# Altium footprint library SparkFun-Clocks.PCBLIB: 23 footprints (part 1 of 2)
Each footprint in its own frame and in the unit in brackets; x right, y up, seen from the top. Pads: shape width x height; smd on the part's side, far side on the other; paste and mask are expansions set on the pad; w line width, h text height; cw(c..) or ccw(c..) is an arc to the next point about the centre after c.
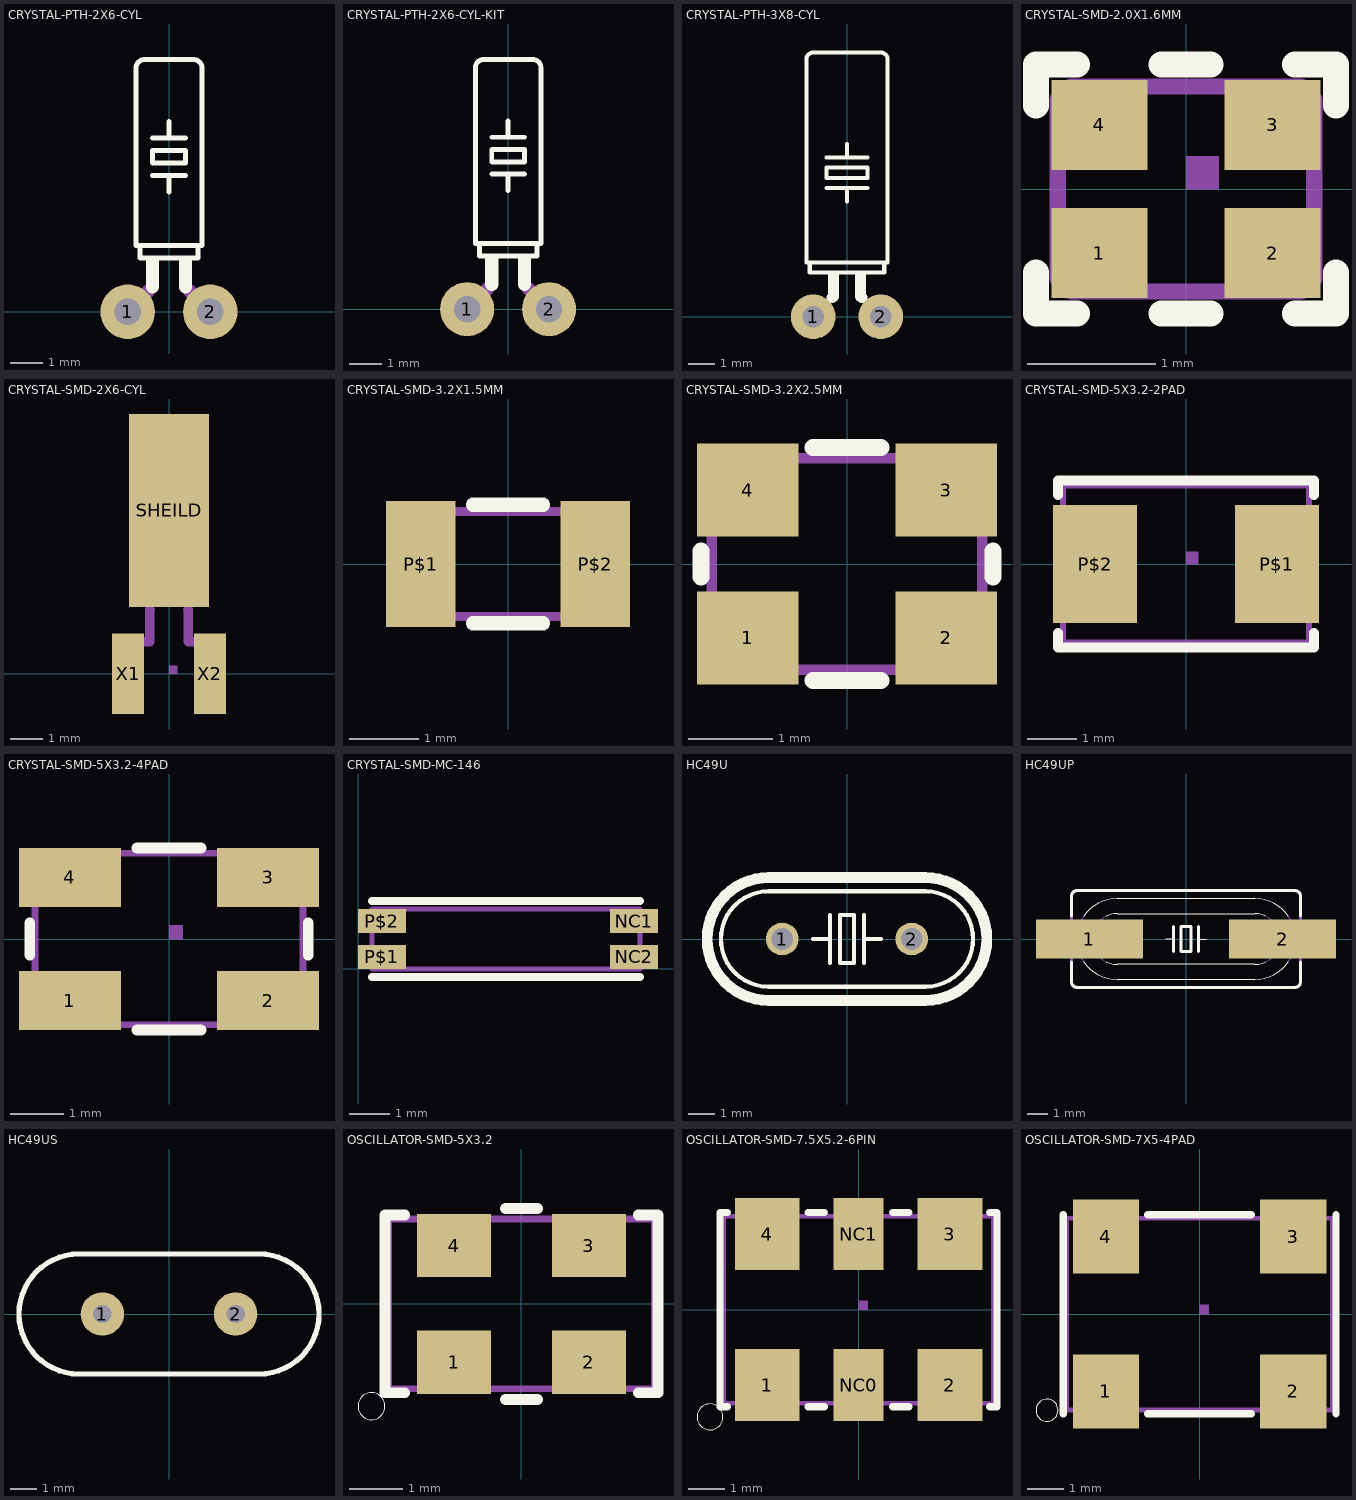
[diagram p0: the footprints below, top view; thin cyan lines are the x and y axes]

## CRYSTAL-PTH-2X6-CYL [mil]
pads (2):
  round 66 hole 32: 1(-50,0) 2(50,0)
Top Overlay:
  rectangle: 12,40 28,63
  rectangle: -28,40 -12,63
  lines w6: -20,165 0,165 ; -20,210 0,210 ; 0,145 0,165 ; 0,230 0,210 ; 20,165 0,165 ; 20,210 0,210 ; -35,80 -35,65 35,65 35,80 ; -35,80 -40,80 -40,295 cw(c-30,295) -30,305 30,305 cw(c30,295) 40,295 40,80 35,80 ; -35,80 35,80 ; -20,180 -20,195 20,195 20,180 -20,180
  lines w16: -20,30 -20,50 ; 20,30 20,45
Mechanical 16:
  lines w16: -50,0 -25,25 ; 25,25 50,0
Via Holes:
  rectangle: -70,30 70,330

## CRYSTAL-PTH-2X6-CYL-KIT [mil]
pads (2):
  round 66 hole 32: 1(-50,0) 2(50,0)
Top Overlay:
  rectangle: 12,40 28,63
  rectangle: -28,40 -12,63
  lines w6: -20,165 0,165 ; -20,210 0,210 ; 0,145 0,165 ; 0,230 0,210 ; 20,165 0,165 ; 20,210 0,210 ; -35,80 -35,65 35,65 35,80 ; -35,80 -40,80 -40,295 cw(c-30,295) -30,305 30,305 cw(c30,295) 40,295 40,80 35,80 ; -35,80 35,80 ; -20,180 -20,195 20,195 20,180 -20,180
  lines w16: -20,30 -20,50 ; 20,30 20,45
Top Solder:
  circle w0: c-50,0 r20
  circle w0: c50,0 r20
Bottom Solder:
  circle w0: c-50,0 r36.4
  circle w0: c50,0 r36.06
Mechanical 16:
  lines w16: -50,0 -25,25 ; 25,25 50,0
Via Holes:
  rectangle: -70,30 70,330

## CRYSTAL-PTH-3X8-CYL [mil]
pads (2):
  round 66 hole 32: 1(-50,0) 2(50,0)
Top Overlay:
  rectangle: 12,40 28,63
  rectangle: -28,40 -12,63
  lines w6: -30,190 0,190 ; -30,235 0,235 ; 0,170 0,190 ; 0,255 0,235 ; 30,190 0,190 ; 30,235 0,235 ; -55,80 -55,65 55,65 55,80 ; -55,80 -60,80 -60,380 cw(c-50,380) -50,390 50,390 cw(c50,380) 60,380 60,80 55,80 ; -55,80 55,80 ; -30,205 -30,220 30,220 30,205 -30,205
  lines w16: -22,28 -20,30 -20,40 ; 20,45 20,30 22,28
Mechanical 16:
  lines w6: -50,0 -25,25 ; 25,25 50,0
Via Holes:
  rectangle: -70,40 70,410

## CRYSTAL-SMD-2.0X1.6MM [mil]
pads (4):
  rect 29.53x27.56 smd: 1(-26.57,-19.69) 2(26.57,-19.69) 3(26.57,19.69) 4(-26.57,19.69)
Top Overlay:
  lines w8: -46.06,-25.59 -46.06,-38.19 -33.46,-38.19 ; -46.06,25.59 -46.06,38.19 -33.46,38.19 ; -7.48,-38.19 7.48,-38.19 ; -7.48,38.19 7.48,38.19 ; 33.46,-38.19 46.06,-38.19 46.06,-25.59 ; 33.46,38.19 46.06,38.19 46.06,25.59
Mechanical 16:
  region: 0,0 10,0 10,10 0,10
  region: 0,0 10,0 10,10 0,10
  region: 0,0 10,0 10,10 0,10
  region: 0,0 10,0 10,10 0,10
  region: 0,0 10,0 10,10 0,10
  lines w5: -39.37,-27.56 -39.37,27.56 ccw(c-39.37,31.5) -35.43,31.5 35.43,31.5 ccw(c39.37,31.5) 39.37,27.56 39.37,-27.56 ccw(c39.37,-31.5) 35.43,-31.5 -35.43,-31.5 ccw(c-39.37,-31.5) -39.37,-27.56

## CRYSTAL-SMD-2X6-CYL [mm]
pads (3):
  rect 2.5x6 smd: SHEILD(0,5.08)
  rect 1x2.5 smd: X1(-1.27,0) X2(1.27,0)
Mechanical 16:
  region: 0,0 0.254,0 0.254,0.254 0,0.254
  lines w0.127: -0.6,2 -0.5,2 ; 0.5,2 0.6,2
  lines w0.3: -1.27,-1 -1.27,1 -0.6,1 -0.6,2 ; 0.6,2 0.6,1 1.27,1 1.27,-1

## CRYSTAL-SMD-3.2X1.5MM [mm]
pads (2):
  rect 1x1.8 smd: P$1(-1.25,0) P$2(1.25,0)
Top Overlay:
  lines w0.203: -0.5,-0.85 0.5,-0.85 ; -0.5,0.85 0.5,0.85
Mechanical 16:
  lines w0.127: -1.6,-0.75 1.6,-0.75 1.6,0.75 -1.6,0.75 -1.6,-0.75

## CRYSTAL-SMD-3.2X2.5MM [mm]
pads (4):
  rect 1.2x1.1 smd: 1(-1.175,-0.875) 2(1.175,-0.875) 3(1.175,0.875) 4(-1.175,0.875)
Top Overlay:
  lines w0.203: -1.727,-0.15 -1.727,0.15 ; -0.4,-1.377 0.4,-1.377 ; -0.4,1.377 0.4,1.377 ; 1.727,-0.15 1.727,0.15
Mechanical 16:
  rectangle: -1.6,0.35 -0.6,1.15
  region: 1.6,-0.35 0.6,-0.35 0.6,-1.15 1.6,-1.15
  rectangle: -1.6,-1.15 -0.6,-0.35
  region: 1.6,1.15 0.6,1.15 0.6,0.35 1.6,0.35
  lines w0.127: -1.6,-1.25 -1.6,1.25 1.6,1.25 1.6,-1.25 -1.6,-1.25

## CRYSTAL-SMD-5X3.2-2PAD [mil]
pads (2):
  rect 66.93x94.49 smd: P$1(72.83,0) P$2(-72.83,0)
Top Overlay:
  lines w8: -102.36,-55.12 -102.36,-66.93 102.36,-66.93 102.36,-55.12 ; -102.36,55.12 -102.36,66.93 102.36,66.93 102.36,55.12
Mechanical 16:
  region: 0,0 10,0 10,10 0,10
  region: 0,0 10,0 10,10 0,10
  lines w5: -98.43,-62.99 98.43,-62.99 98.43,62.99 -98.43,62.99 -98.43,-62.99

## CRYSTAL-SMD-5X3.2-4PAD [mil]
pads (4):
  rect 74.8x43.31 smd: 1(-72.83,-45.28) 2(72.83,-45.28) 3(72.83,45.28) 4(-72.83,45.28)
Top Overlay:
  lines w8: -102.36,-11.81 -102.36,11.81 ; -23.62,-66.93 23.62,-66.93 ; -23.62,66.93 23.62,66.93 ; 102.36,-11.81 102.36,11.81
Mechanical 16:
  region: 0,0 10,0 10,10 0,10
  region: 0,0 10,0 10,10 0,10
  region: 0,0 10,0 10,10 0,10
  region: 0,0 10,0 10,10 0,10
  lines w5: -98.43,-62.99 -98.43,62.99 98.43,62.99 98.43,-62.99 -98.43,-62.99

## CRYSTAL-SMD-MC-146 [mil]
pads (4):
  rect 47.24x23.62 smd: NC1(271.65,47.24) NC2(271.65,11.81) P$1(23.62,11.81) P$2(23.62,47.24)
Top Overlay:
  lines w8: 13.78,-7.87 277.56,-7.87 ; 13.78,66.93 277.56,66.93
Mechanical 16:
  lines w5: 13.78,0 277.56,0 277.56,59.06 13.78,59.06 13.78,0

## HC49U [mil]
pads (2):
  round 48 hole 32: 1(-95,0) 2(95,0)
Top Overlay:
  lines w6: -50,0 -25,0 ; -25,-35 -25,0 ; -25,35 -25,0 ; 25,-35 25,0 ; 25,35 25,0 ; 50,0 25,0 ; -115,-70 115,-70 ccw(c115,0) 115,70 -115,70 ccw(c-115,0) -115,-70 ; -10,-35 10,-35 10,35 -10,35 -10,-35
  lines w16: -115,-90 115,-90 ccw(c115,0) 115,90 -115,90 ccw(c-115,0) -115,-90
Via Holes:
  rectangle: -150,-110 150,110
  rectangle: -170,-100 -150,100
  rectangle: -190,-90 -170,90
  rectangle: -210,-70 -190,70
  rectangle: -220,-50 -210,40
  rectangle: 150,-100 170,100
  rectangle: 170,-90 190,90
  rectangle: 190,-70 210,70
  rectangle: 210,-40 220,40

## HC49UP [mil]
pads (2):
  rect 210x76 smd: 1(-190,0) 2(190,0)
Top Overlay:
  lines w2: -201.15,-45 ccw(c-135,0) -135,-80 135,-80 ccw(c135,0) 201.14,-45 ; -201.15,45 cw(c-135,-0.01) -135,80 135,80 cw(c135,0) 201.15,45 ; -156.8,-45 ccw(c-135,0.01) -135,-50 135,-50 ccw(c135,0.01) 156.8,-45 ; -156.8,45 cw(c-135,-0.01) -135,50 135,50 cw(c135,-0.01) 156.8,45 ; -40,0 -25,0 ; 25,0 40,0
  lines w6: -225,-45 -225,-85 ccw(c-215,-85) -215,-95 215,-95 ccw(c215,-85) 225,-85 225,-45 ; -225,45 -225,85 cw(c-215,85) -215,95 215,95 cw(c215,85) 225,85 225,45 ; -25,-25 -25,0 -25,25 ; 25,-25 25,0 25,25 ; -10,-25 -10,25 10,25 10,-25 -10,-25
Mechanical 16:
  lines w2: -201.15,-45 cw(c-135,0) -201.15,45 ; -156.8,-45 cw(c-135,0) -156.8,45 ; 156.8,-45 ccw(c135,0) 156.8,45 ; 201.15,-45 ccw(c135,0) 201.15,45
  lines w6: -225,-45 -225,-15 ; -225,45 -225,15 ; 225,-45 225,45 ; 225,-15 255,-15 255,15 225,15 ; -225,-15 -225,15 ; -225,-15 -255,-15 -255,15 -225,15
Via Holes:
  rectangle: -260,-120 260,120

## HC49US [mil]
pads (2):
  round 65 hole 27.56: 1(-100,0) 2(100,0)
Top Overlay:
  lines w8: -135,-90 135,-90 ccw(c135,0) 135,90 -135,90 ccw(c-135,0) -135,-90

## OSCILLATOR-SMD-5X3.2 [mil]
pads (4):
  rect 55x47 smd: 1(-50,-43.31) 2(50,-43.31) 3(50,43.31) 4(-50,43.31)
Top Overlay:
  circle w0: c-111.3,-75.87 r10
  lines w8: -86.61,-65.87 -101.3,-65.87 -101.3,65.87 -86.61,65.87 ; -11.81,-70.87 11.81,-70.87 ; -11.81,70.87 11.81,70.87 ; 86.61,-65.87 101.3,-65.87 101.3,65.87 86.61,65.87
Mechanical 16:
  lines w5: -98.43,-62.99 -98.43,62.99 98.43,62.99 98.43,-62.99 -98.43,-62.99

## OSCILLATOR-SMD-7.5X5.2-6PIN [mm]
pads (6):
  rect 1.8x2 smd: 1(-2.54,-2.1) 2(2.54,-2.1) 3(2.54,2.1) 4(-2.54,2.1)
  rect 1.4x2 smd: NC0(0,-2.1) NC1(0,2.1)
Top Overlay:
  circle w0: c-4.131,-2.981 r0.36
  lines w0.203: -3.65,-2.7 -3.85,-2.7 -3.85,2.7 -3.65,2.7 ; -1.4,-2.7 -0.95,-2.7 ; -1.4,2.7 -0.95,2.7 ; 0.95,-2.7 1.4,-2.7 ; 0.95,2.7 1.4,2.7 ; 3.65,-2.7 3.85,-2.7 3.85,2.7 3.65,2.7
Mechanical 16:
  region: 0,0 0.254,0 0.254,0.254 0,0.254
  region: 0,0 0.254,0 0.254,0.254 0,0.254
  region: 0,0 0.254,0 0.254,0.254 0,0.254
  region: 0,0 0.254,0 0.254,0.254 0,0.254
  region: 0,0 0.254,0 0.254,0.254 0,0.254
  region: 0,0 0.254,0 0.254,0.254 0,0.254
  lines w0.127: -3.75,-2.6 3.75,-2.6 3.75,2.6 -3.75,2.6 -3.75,-2.6

## OSCILLATOR-SMD-7X5-4PAD [mm]
pads (4):
  rect 1.8x2 smd: 1(-2.54,-2.095) 2(2.54,-2.095) 3(2.54,2.104) 4(-2.54,2.104)
Top Overlay:
  circle w0: c-4.138,-2.605 r0.3
  lines w0.203: -3.7,-2.7 -3.7,2.7 ; -1.4,-2.7 1.4,-2.7 ; -1.4,2.7 1.4,2.7 ; 3.7,-2.7 3.7,2.7
Mechanical 16:
  region: 0,0 0.254,0 0.254,0.254 0,0.254
  region: 0,0 0.254,0 0.254,0.254 0,0.254
  region: 0,0 0.254,0 0.254,0.254 0,0.254
  region: 0,0 0.254,0 0.254,0.254 0,0.254
  lines w0.127: -3.6,-2.6 3.6,-2.6 3.6,2.6 -3.6,2.6 -3.6,-2.6